# Altium schematic symbol library CD4504BPWR.Schlib: 1 symbol
Pins are listed as number, name and electrical type; pins without a type are passive.

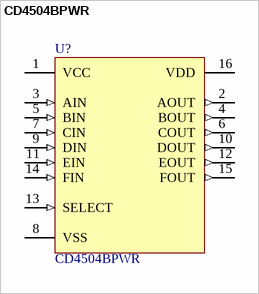
[diagram p0: symbol CD4504BPWR]

## CD4504BPWR
designator U?
Voltage Level Translator Unidirectional 1 Circuit 6 Channel 16-TSSOP
pins: 1 VCC (power), 2 AOUT (out), 3 AIN (in), 4 BOUT (out), 5 BIN (in), 6 COUT (out), 7 CIN (in), 8 VSS (power), 9 DIN (in), 10 DOUT (out), 11 EIN (in), 12 EOUT (out), 13 SELECT (in), 14 FIN (in), 15 FOUT (out), 16 VDD (power)